# EAGLE library part 74*06 (library std-logic-74xx)
Hex INVERTER, open collector high-voltage output
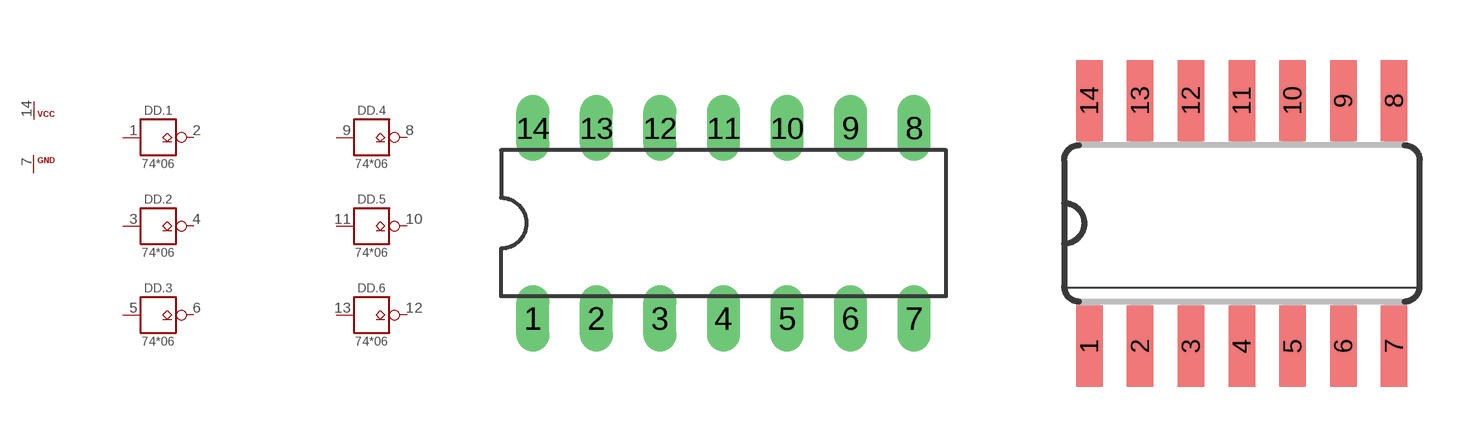
[diagram p166: symbol with the pads of DIL14; footprints DIL14, SO14]

Designator prefix DD; gates .1=7405 .2=7405 .3=7405 .4=7405 .5=7405 .6=7405 G$1=PWRN-2CELLS

## 7406N, 74AC06N, 74ACT06N, 74LS06N  [DIL14]
1  .1:I  in
2  .1:O  oc
3  .2:I  in
4  .2:O  oc
5  .3:I  in
6  .3:O  oc
7  G$1:GND  pwr
8  .4:O  oc
9  .4:I  in
10  .5:O  oc
11  .5:I  in
12  .6:O  oc
13  .6:I  in
14  G$1:VCC  pwr

## 7406D, 74AC06D, 74ACT06D, 74LS06D  [SO14]
Pads as for DIL14

## 74AC06FK, 74ACT06FK, 74LS06FK  [LCC20]
2  .1:I  in
3  .1:O  oc
4  .2:I  in
6  .2:O  oc
8  .3:I  in
9  .3:O  oc
10  G$1:GND  pwr
12  .4:O  oc
13  .4:I  in
14  .5:O  oc
16  .5:I  in
18  .6:O  oc
19  .6:I  in
20  G$1:VCC  pwr

## Footprint DIL14 (pad centres in mm)
Dual In Line Package
drill 0.813 long: 1 -7.62,-3.81; 2 -5.08,-3.81; 3 -2.54,-3.81; 4 0,-3.81; 5 2.54,-3.81; 6 5.08,-3.81; 7 7.62,-3.81; 8 7.62,3.81; 9 5.08,3.81; 10 2.54,3.81; 11 0,3.81; 12 -2.54,3.81; 13 -5.08,3.81; 14 -7.62,3.81

## Footprint SO14 (pad centres in mm)
Small Outline package 150 mil
smd 0.66 x 2.032: 1 -3.81,-3.073; 2 -2.54,-3.073; 3 -1.27,-3.073; 4 0,-3.073; 5 1.27,-3.073; 6 2.54,-3.073; 7 3.81,-3.073; 8 3.81,3.073; 9 2.54,3.073; 10 1.27,3.073; 11 0,3.073; 12 -1.27,3.073; 13 -2.54,3.073; 14 -3.81,3.073

## Footprint LCC20 (pad centres in mm)
Leadless Chip Carrier Ceramic Package
smd 0.8 x 3.4: 1 0,3.8
smd 0.8 x 2: 2 -1.27,4.5; 3 -2.54,4.5; 9 -2.54,-4.5; 10 -1.27,-4.5; 11 0,-4.5; 12 1.27,-4.5; 13 2.54,-4.5; 19 2.54,4.5; 20 1.27,4.5
smd 2 x 0.8: 4 -4.5,2.54; 5 -4.5,1.27; 6 -4.5,0; 7 -4.5,-1.27; 8 -4.5,-2.54; 14 4.5,-2.54; 15 4.5,-1.27; 16 4.5,0; 17 4.5,1.27; 18 4.5,2.54